# Altium schematic symbol library TPD4E001.SchLib: 1 symbol
Pins are listed as number, name and electrical type; pins without a type are passive.

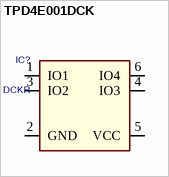
[diagram p0: symbol TPD4E001DCK]

## TPD4E001DCK
designator IC?, comment TPD4E001DCKR
PDF: http://www.ti.com/lit/ds/symlink/tpd4e001.pdf; ID: TPD4E001DCKR; BUY_LINK: http://www.digikey.com/product-detail/en/TPD4E001DCKR/296-28779-1-ND/2666521; PRICE: 0.49000
footprint SC70-6
pins: 1 IO1, 2 GND, 3 IO2, 4 IO3, 5 VCC, 6 IO4